# EAGLE library part TI-TPA301 (library Pygmy)
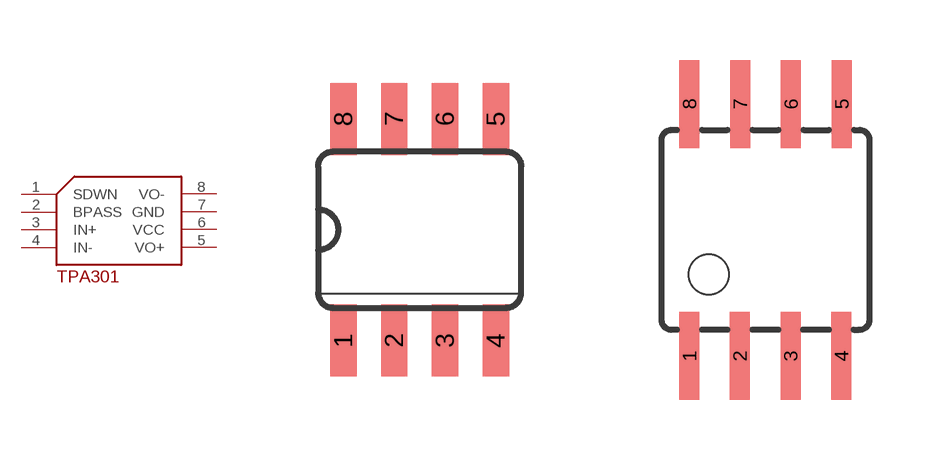
[diagram p27: symbol with the pads of SO08; footprints SO08, DUBLIB_SOIC8]

Designator prefix -

## TI-TPA301  [SO08]
1  SDWN
2  BPASS
3  IN+
4  IN-
5  VO+
6  VCC
7  GND
8  VO-

## TI-TPA301SOIC8-WIDE  [DUBLIB_SOIC8]
Pads as for SO08

## Footprint SO08 (pad centres in mm)
Small Outline package 150 mil
smd 0.66 x 1.8: 1 -1.905,-2.773; 2 -0.635,-2.773; 3 0.635,-2.773; 4 1.905,-2.773; 5 1.905,2.773; 6 0.635,2.773; 7 -0.635,2.773; 8 -1.905,2.773

## Footprint DUBLIB_SOIC8 (pad centres in mm)
Wide Plastic Gull Wing Small Outline Package
smd 0.5 x 2.2: 1 -1.905,-3.154; 2 -0.645,-3.154; 3 0.625,-3.154; 4 1.895,-3.154; 5 1.905,3.154; 6 0.635,3.154; 7 -0.635,3.154; 8 -1.905,3.154